# EAGLE library part VDRM_171031801 (library Eagle_ISOLATED_CONVERTER (rev18c))
MagI3C Power Module VDRM – Variable Step Down Regulator Module 4V – 18V / 2A / 0.8V – 17V Output <http://katalog.we-online.de/media/images/v2/MagIC_VDRM_pf2(5).jpg> Details see: http://katalog.we-online.de/pm/datasheet/171031801.pdf Created By Yingchun Shan 2018-02-22 2018 (C) Würth Elektronik
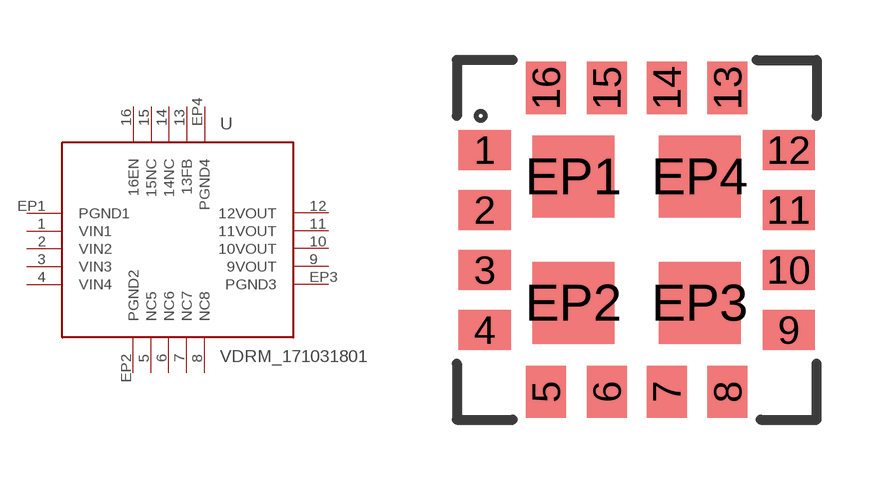
[diagram p15: symbol with the pads of VDRM_1710X1801; footprint VDRM_1710X1801]

Designator prefix U

## VDRM_171031801  [VDRM_1710X1801]
1  VIN1
2  VIN2
3  VIN3
4  VIN4
5  NC5
6  NC6
7  NC7
8  NC8
9  9VOUT
10  10VOUT
11  11VOUT
12  12VOUT
13  13FB
14  14NC
15  15NC
16  16EN
EP1  PGND1
EP2  PGND2
EP3  PGND3
EP4  PGND4

## Footprint VDRM_1710X1801 (pad centres in mm)
smd 1.3 x 1: 1 -3.8,2.25; 2 -3.8,0.75; 3 -3.8,-0.75; 4 -3.8,-2.25; 9 3.8,-2.25; 10 3.8,-0.75; 11 3.8,0.75; 12 3.8,2.25
smd 1 x 1.3: 5 -2.27,-3.8; 6 -0.75,-3.8; 7 0.75,-3.8; 8 2.27,-3.8; 13 2.27,3.8; 14 0.75,3.8; 15 -0.75,3.8; 16 -2.27,3.8
smd 2.05 x 2.05: EP1 -1.58,1.58; EP2 -1.58,-1.58; EP3 1.58,-1.58; EP4 1.58,1.58